# Altium footprint library EPS.PcbLib: 38 footprints (part 1 of 3)
Each footprint in its own frame and in the unit in brackets; x right, y up, seen from the top. Pads: shape width x height; smd on the part's side, far side on the other; paste and mask are expansions set on the pad; w line width, h text height; cw(c..) or ccw(c..) is an arc to the next point about the centre after c.
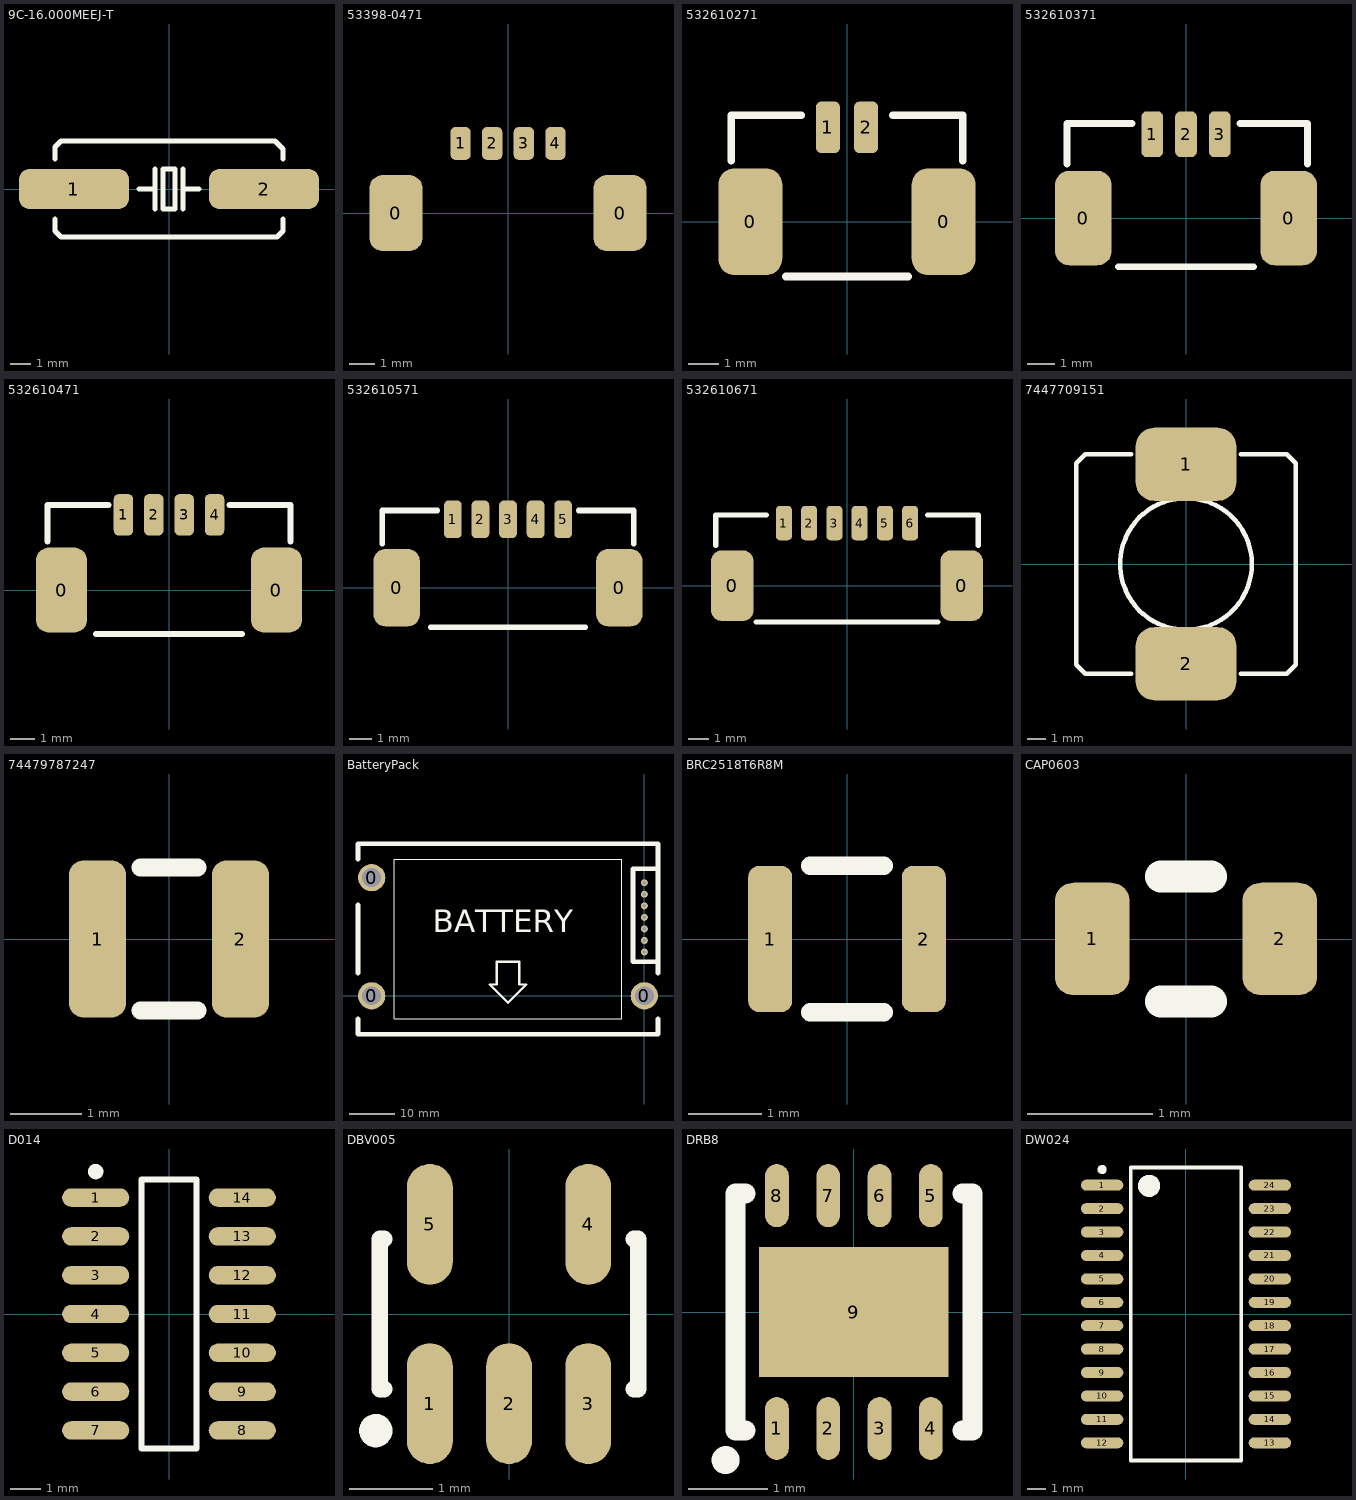
[diagram p0: the footprints below, top view; thin cyan lines are the x and y axes]

## 9C-16.000MEEJ-T [mm] "16 MHz Crystal"
height 3.8
pads (2):
  rrect50% 5.5x2 smd: 1(-4.75,0) 2(4.75,0)
Top Overlay:
  lines w0.254: -5.7,-1.5 -5.7,-2.1 -5.4,-2.4 5.4,-2.4 5.7,-2.1 5.7,-1.5 ; -5.7,1.5 -5.7,2.1 -5.4,2.4 5.3,2.4 5.7,2 5.7,1.5 ; -1.5,0 -0.7,0 ; -0.7,-1 -0.7,1 ; 0.7,-1 0.7,1 ; 0.7,0 1.5,0 ; -0.3,-1 0.3,-1 0.3,1 -0.3,1 -0.3,-1
3D body: height 4.22, standoff 0.02, extent -6.35,-2.35 6.35,2.35

## 53398-0471 [mm]
pads (6):
  rrect50% 2.1x3 smd: 0(-4.425,0) 0(4.425,0)
  rrect50% 0.8x1.3 smd: 1(-1.875,2.75) 2(-0.625,2.75) 3(0.625,2.75) 4(1.875,2.75)

## 532610271 [mm] "MACHO, ACODADO, SMT, 2 VÍAS"
height 3.4
pads (4):
  rrect50% 2.1x3.5 smd: 0(-3.175,0) 0(3.175,0)
  rrect50% 0.8x1.7 smd: 1(-0.625,3.1) 2(0.625,3.1)
Top Overlay:
  lines w0.254: -3.8,2 -3.8,3.5 -1.5,3.5 ; -2,-1.8 2,-1.8 ; 1.5,3.5 3.8,3.5 3.8,2
3D body: height 3.35, standoff -0.05, extent -3.825,-1.8 3.825,3.4

## 532610371 [mm] "MACHO, ACODADO, SMT, 3 VÍAS"
height 3.4
pads (5):
  rrect50% 2.1x3.5 smd: 0(-3.8,0) 0(3.8,0)
  rrect50% 0.8x1.7 smd: 1(-1.25,3.1) 2(0,3.1) 3(1.25,3.1)
Top Overlay:
  lines w0.254: -4.4,2 -4.4,3.5 -2,3.5 ; -2.5,-1.8 2.5,-1.8 ; 2,3.5 4.5,3.5 4.5,2
3D body: height 3.35, standoff -0.05, extent -4.45,-1.8 4.45,3.4

## 532610471 [mm] "MACHO, ACODADO, SMT, 4 VÍAS"
height 3.4
pads (6):
  rrect50% 2.1x3.5 smd: 0(-4.425,0) 0(4.425,0)
  rrect50% 0.8x1.7 smd: 1(-1.875,3.1) 2(-0.625,3.1) 3(0.625,3.1) 4(1.875,3.1)
Top Overlay:
  lines w0.254: -5,2 -5,3.5 -2.5,3.5 ; -3,-1.8 3,-1.8 ; 2.5,3.5 5,3.5 5,2
3D body: height 3.35, standoff -0.05, extent -5.075,-1.8 5.075,3.4

## 532610571 [mm] "MACHO, ACODADO, SMT, 5 VÍAS"
height 3.4
pads (7):
  rrect50% 2.1x3.5 smd: 0(-5.05,0) 0(5.05,0)
  rrect50% 0.8x1.7 smd: 1(-2.5,3.1) 2(-1.25,3.1) 3(0,3.1) 4(1.25,3.1) 5(2.5,3.1)
Top Overlay:
  lines w0.254: -5.7,2 -5.7,3.5 -3.2,3.5 ; -3.5,-1.8 3.5,-1.8 ; 3.2,3.5 5.7,3.5 5.7,2
3D body: height 3.35, standoff -0.05, extent -5.7,-1.8 5.7,3.4

## 532610671 [mm] "MACHO, ACODADO, SMT, 6 VÍAS"
height 3.4
pads (8):
  rrect50% 2.1x3.5 smd: 0(-5.675,0) 0(5.675,0)
  rrect50% 0.8x1.7 smd: 1(-3.125,3.1) 2(-1.875,3.1) 3(-0.625,3.1) 4(0.625,3.1) 5(1.875,3.1) 6(3.125,3.1)
Top Overlay:
  lines w0.254: -6.5,2 -6.5,3.5 -4,3.5 ; -4.5,-1.8 4.5,-1.8 ; 4,3.5 6.5,3.5 6.5,2
3D body: height 3.4, standoff 0, extent -6.325,-1.8 6.325,3.4

## 7447709151 [mm] "WE-PD SMD Shielded Power Inductor"
height 10
pads (2):
  rrect50% 5.5x4 smd: 1(0,5.45) 2(0,-5.45)
Top Overlay:
  circle w0.254: c0,0 r3.6
  lines w0.254: -3,-6 -5.5,-6 -6,-5.5 -6,5.5 -5.5,6 -3,6 ; 3,-6 5.5,-6 6,-5.5 6,5.5 5.5,6 3,6
3D body: height 10, standoff 0, extent -6,-6 6,6

## 74479787247 [mm] "INDUCTOR, 4.7UH, 1.25A, 40MHZ"
height 1
pads (2):
  rrect50% 0.8x2.2 smd: 1(-1,0) 2(1,0)
Top Overlay:
  lines w0.254: -0.4,-1 0.4,-1 ; -0.4,1 0.4,1
3D body: height 1.8, standoff 0, extent -1.25,-0.9 1.25,0.9

## BatteryPack [mil]
pads (10):
  round 236.22 hole 163.39: 0(-2362.2,0) 0(-2362.2,1023.62) 0(0,0)
  round 60 hole 30: 1(0,979.53) 2(0,879.53) 3(0,779.53) 4(0,679.53) 5(0,579.53) 6(0,479.53) 7(0,379.53)
Top Overlay:
  lines w10: -2165.35,-196.85 -196.85,-196.85 -196.85,1181.1 -2165.35,1181.1 -2165.35,-196.85
  lines w19.68: -1181.1,-59.06 -1023.62,98.43 -1082.68,98.43 -1082.68,295.28 -1279.53,295.28 -1279.53,98.43 -1338.58,98.43 -1181.1,-59.06 ; -1181.1,-59.06 -1181.1,-59.06
  lines w39.37: -2480.32,-196.85 -2480.32,-334.65 118.11,-334.65 118.11,-196.85 ; -2480.32,196.85 -2480.32,787.4 ; -2480.32,1181.1 -2480.32,1318.9 118.11,1318.9 118.11,196.85 ; 118.11,295.28 -98.43,295.28 -98.43,1102.36 118.11,1102.36
  text "BATTERY" at -1830.71,551.18 h196.85
3D body: height 708.66, standoff -118.11, extent -2479.6,-338.76 118.82,1314.79

## BRC2518T6R8M [mm] "WIRE-WOUND CHIP POWER INDUCTORS(BR SERIES)"
height 2
pads (2):
  rrect50% 0.6x2 smd: 1(-1.05,0) 2(1.05,0)
Top Overlay:
  lines w0.254: -0.5,-1 0.5,-1 ; -0.5,1 0.5,1
3D body: height 1.8, standoff 0, extent -1.25,-0.9 1.25,0.9

## CAP0603 [mm] "Capacitor Chip Inductor, Body 0.6x0.3mm, IPC High Density"
height 0.55
pads (2):
  rrect50% 0.6x0.9 smd: 1(-0.75,0) 2(0.75,0)
Top Overlay:
  lines w0.254: -0.2,-0.5 0.2,-0.5 ; -0.2,0.5 0.2,0.5
3D body: height 0.76, standoff -0.01, extent -0.762,-0.381 0.762,0.381

## D014 [mm] "14-Pin Small Outline Integrated Circuit 1.27 mm Pitch, IPC Medium Density"
height 1.75
pads (14):
  oval 2.2x0.6 smd: 1(-2.4,3.81) 2(-2.4,2.54) 3(-2.4,1.27) 4(-2.4,0) 5(-2.4,-1.27) 6(-2.4,-2.54) 7(-2.4,-3.81) 8(2.4,-3.81) 9(2.4,-2.54) 10(2.4,-1.27) 11(2.4,0) 12(2.4,1.27) 13(2.4,2.54) 14(2.4,3.81)
Top Overlay:
  circle w0.25: c-2.4,4.66 r0.125
  lines w0.2: -0.9,-4.4 0.9,-4.4 0.9,4.4 -0.9,4.4 -0.9,-4.4
3D body: height 1.7, standoff 0, extent -3,-4.4 3,4.4

## DBV005 [mm] "SOT-23/SC-74A; 5 Leads; Body 3 x 3 mm, inc. leads (LxW max)"
height 1.45
pads (5):
  oval 0.55x1.45 smd: 1(-0.95,-1.075) 2(0,-1.075) 3(0.95,-1.075) 4(0.95,1.075) 5(-0.95,1.075)
Top Overlay:
  circle w0.2: c-1.6,-1.4 r0.1
  lines w0.2: -1.5,-0.9 -1.55,-0.9 -1.55,0.9 -1.5,0.9 ; 1.5,-0.9 1.55,-0.9 1.55,0.9 1.5,0.9
3D body: height 1, standoff 0, extent -1.46,-1.17 1.46,1.17

## DRB8 [mm] "Plastic Small Outline NO-LEAD (S-PVSON-N8)"
height 1
pads (9):
  oval 0.3x0.8 smd: 1(-0.975,-1.475) 2(-0.325,-1.475) 3(0.325,-1.475) 4(0.975,-1.475) 5(0.975,1.475) 6(0.325,1.475) 7(-0.325,1.475) 8(-0.975,1.475)
  rect 2.4x1.65 smd: 9(0,0)
Top Overlay:
  circle w0.254: c-1.625,-1.875 r0.05
  lines w0.254: -1.375,-1.5 -1.5,-1.5 -1.5,1.5 -1.375,1.5 ; 1.375,-1.5 1.5,-1.5 1.5,1.5 1.375,1.5
3D body: height 0.87, standoff -0.03, extent -1.5,-1.5 1.5,1.5

## DW024 [mm] "24-Pin Plastic Small Outline Integrated Circuit 1.27 mm Pitch, IPC Medium Density"
height 2.65
pads (24):
  oval 2.3x0.6 smd: 1(-4.55,6.985) 2(-4.55,5.715) 3(-4.55,4.445) 4(-4.55,3.175) 5(-4.55,1.905) 6(-4.55,0.635) 7(-4.55,-0.635) 8(-4.55,-1.905) 9(-4.55,-3.175) 10(-4.55,-4.445) 11(-4.55,-5.715) 12(-4.55,-6.985) 13(4.55,-6.985) 14(4.55,-5.715) 15(4.55,-4.445) 16(4.55,-3.175) 17(4.55,-1.905) 18(4.55,-0.635) 19(4.55,0.635) 20(4.55,1.905) 21(4.55,3.175) 22(4.55,4.445) 23(4.55,5.715) 24(4.55,6.985)
Top Overlay:
  circle w0.25: c-4.55,7.835 r0.125
  circle w0.6: c-2,6.95 r0.3
  lines w0.2: -3,-7.95 -3,7.95 3,7.95 3,-7.95 -3,-7.95
3D body: height 2.77, standoff -0.04, extent -4.9,-7.8 5.1,7.8